# Altium schematic symbol library Capstone I library.SchLib: 6 symbols
Pins are listed as number, name and electrical type; pins without a type are passive.

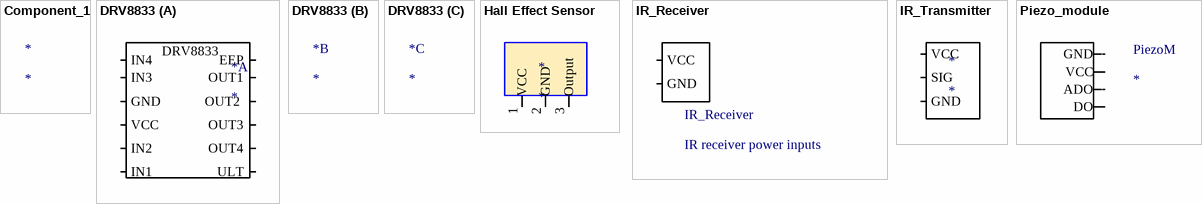
[diagram p0: symbols Component_1 to Piezo_module]

## Component_1
designator *

## DRV8833
designator *
Motor Driver
footprint DRV8833; pin to pad EEP>12 GND>3 IN1>6 IN2>5 IN3>2 IN4>1 OUT1>11 OUT2 >10  OUT3>9 OUT4>8 ULT>7 VCC>4
part A pins: EEP, GND, IN1, IN2, IN3, IN4, OUT1, OUT2 , OUT3, OUT4, ULT, VCC

## Hall Effect Sensor
designator *
pins: 1 VCC, 2 GND, 3 Output

## IR_Receiver
designator IR_Receiver, comment IR receiver power inputs
pins: GND_R GND, VCC_R VCC

## IR_Transmitter
designator *
pins: GND_T GND, SIG, VCC_T VCC

## Piezo_module
designator PiezoM
pins: 7 VCC, 8 ADO, 9 DO, GND